# Altium schematic symbol library 618 0xx 331 023.SchLib: 4 symbols
Pins are listed as number, name and electrical type; pins without a type are passive.

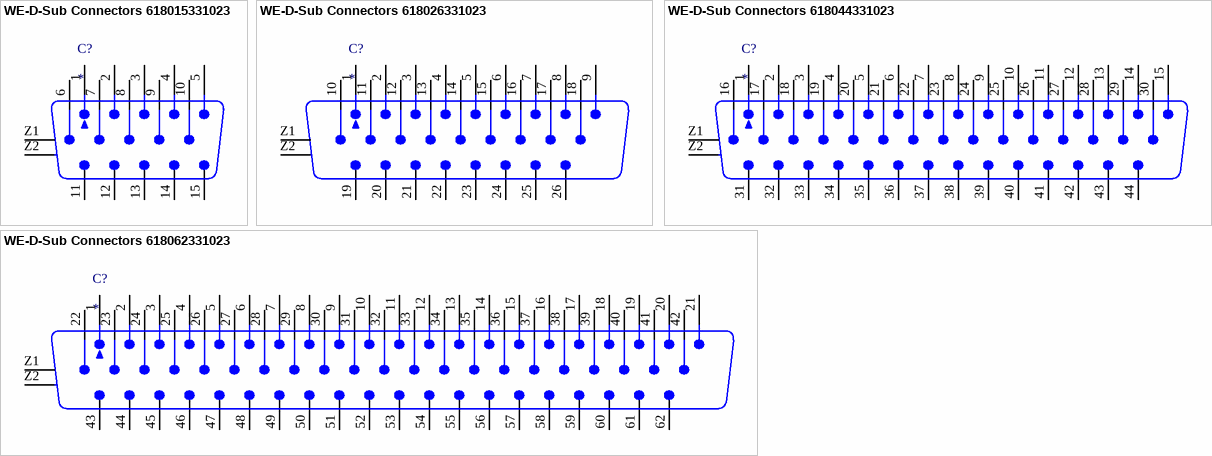
[diagram p0: symbols WE-D-Sub Connectors 618015331023 to WE-D-Sub Connectors 618062331023]

## WE-D-Sub Connectors 618015331023
designator C?
WR-DSUB Male High Density Angled PCB Connector; Manufacturer: Würth Elektronik eiSos GmbH; partNo: 618015331023; ComponentLink1 Description: Manufacturer; ComponentLink2 Description: Datasheet; NoPins: 15; ComponentLink1URL: http://www.we-online.de; ComponentLink2URL: http://katalog.we-online.de/em/datasheet/6180xx331023.pdf; Created by: Karrer Zheng; Created Date: 10/16/2014
footprint 618015331023
pins: 1, 2, 3, 4, 5, 6, 7, 8, 9, 10, 11, 12, 13, 14, 15, Z1 GND, Z2 GND

## WE-D-Sub Connectors 618026331023
designator C?
WR-DSUB Male High Density Angled PCB Connector; Manufacturer: Würth Elektronik eiSos GmbH; partNo: 618026331023; ComponentLink1 Description: Manufacturer; ComponentLink2 Description: Datasheet; NoPins: 26; ComponentLink1URL: http://www.we-online.de; ComponentLink2URL: http://katalog.we-online.de/em/datasheet/6180xx331023.pdf; Created by: Karrer Zheng; Created Date: 10/16/2014
footprint 618026331023
pins: 1, 2, 3, 4, 5, 6, 7, 8, 9, 10, 11, 12, 13, 14, 15, 16, 17, 18, 19, 20, 21, 22, 23, 24, 25, 26, Z1 GND, Z2 GND

## WE-D-Sub Connectors 618044331023
designator C?
WR-DSUB Male High Density Angled PCB Connector; Manufacturer: Würth Elektronik eiSos GmbH; partNo: 618044331023; ComponentLink1 Description: Manufacturer; ComponentLink2 Description: Datasheet; NoPins: 44; ComponentLink1URL: http://www.we-online.de; ComponentLink2URL: http://katalog.we-online.de/em/datasheet/6180xx331023.pdf; Created by: Karrer Zheng; Created Date: 10/16/2014
footprint 618044331023
pins: 1, 2, 3, 4, 5, 6, 7, 8, 9, 10, 11, 12, 13, 14, 15, 16, 17, 18, 19, 20, 21, 22, 23, 24, 25, 26, 27, 28, 29, 30, 31, 32, 33, 34, 35, 36, 37, 38, 39, 40, 41, 42, 43, 44, Z1 GND, Z2 GND

## WE-D-Sub Connectors 618062331023
designator C?
WR-DSUB Male High Density Angled PCB Connector; Manufacturer: Würth Elektronik eiSos GmbH; partNo: 618062331023; ComponentLink1 Description: Manufacturer; ComponentLink2 Description: Datasheet; NoPins: 62; ComponentLink1URL: http://www.we-online.de; ComponentLink2URL: http://katalog.we-online.de/em/datasheet/6180xx331023.pdf; Created by: Karrer Zheng; Created Date: 10/16/2014
footprint 618062331023
pins: 1, 2, 3, 4, 5, 6, 7, 8, 9, 10, 11, 12, 13, 14, 15, 16, 17, 18, 19, 20, 21, 22, 23, 24, 25, 26, 27, 28, 29, 30, 31, 32, 33, 34, 35, 36, 37, 38, 39, 40, 41, 42, 43, 44, 45, 46, 47, 48, 49, 50, 51, 52, 53, 54, 55, 56, 57, 58, 59, 60, 61, 62, Z1 GND, Z2 GND